# Altium schematic symbol library Vowstar_Antenna.SchLib: 2 symbols
Pins are listed as number, name and electrical type; pins without a type are passive.

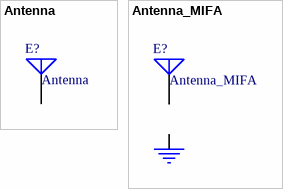
[diagram p0: symbols Antenna to Antenna_MIFA]

## Antenna
designator E?
Generic Antenna
footprint Antenna_IIFA_2.4GHz (Small Size IIFA 2.4 GHz PCB antenna)
footprint GPS1003 (GPS1003 Multilayer Chip Antenna)
footprint MD1506_12N (MD1506  ‐  12N  Multilayer  Chip  Antenna)
footprint AN1603 (AN1603 Multilayer Chip Antenna)
footprint Antenna_IIFA_868MHz_915MHz (Small Size IIFA 868MHz/915MHz PCB antenna)
footprint Antenna_IIFA_868MHz_915MHz (Small Size IIFA 868MHz/915MHz PCB antenna)
footprint Antenna_ILA_2.4GHz
footprint Antenna_ILA_B_2.4GHz
footprint Antenna_PIFA_2.4GHz_1MM (Small Size PIFA 2.4 GHz PCB antenna)
footprint AN9520 (AN9520  Multilayer Chip Antenna for  2.4GHz Wireless Communication)
footprint Antenna_RT5370_AP_D9595 (Wi-Fi 2.4GHz PCB Antenna)
footprint Antenna_IIFA_2.4GHz_ESP (Small Size IIFA 2.4 GHz PCB antenna)
pins: 1 A

## Antenna_MIFA
designator E?
Meandered Inverted F Antenna
footprint Antenna_IIFA_2.4GHz (Small Size IIFA 2.4 GHz PCB antenna)
footprint Antenna_IIFA_868MHz_915MHz (Small Size IIFA 868MHz/915MHz PCB antenna)
footprint Antenna_IIFA_868MHz_915MHz (Small Size IIFA 868MHz/915MHz PCB antenna)
footprint Antenna_PIFA_2.4GHz_1MM (Small Size PIFA 2.4 GHz PCB antenna)
footprint Antenna_RT5370_AP_D9595 (Wi-Fi 2.4GHz PCB Antenna)
footprint Antenna_IIFA_2.4GHz_ESP (Small Size IIFA 2.4 GHz PCB antenna)
pins: 1 A, 2 G